# Altium footprint library Tactile_Switches_Buttons.PCBLIB: 2 footprints
Each footprint in its own frame and in the unit in brackets; x right, y up, seen from the top. Pads: shape width x height; smd on the part's side, far side on the other; paste and mask are expansions set on the pad; w line width, h text height; cw(c..) or ccw(c..) is an arc to the next point about the centre after c.
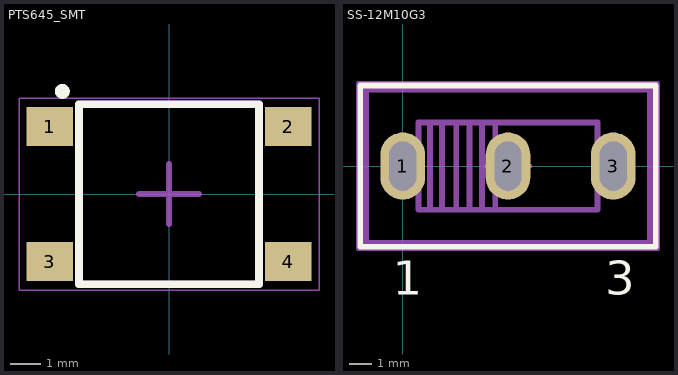
[diagram p0: the footprints below, top view; thin cyan lines are the x and y axes]

## PTS645_SMT [mm]
pads (4):
  rect 1.55x1.3 smd: 1(-3.975,2.25) 2(3.975,2.25) 3(-3.975,-2.25) 4(3.975,-2.25)
Top Overlay:
  circle w0.254: c-3.556,3.429 r0.121
  lines w0.254: -3,-3 3,-3 3,3 -3,3 -3,-3
Top Assembly:
  lines w0.254: -3,-3 3,-3 3,3 -3,3 -3,-3
Top Courtyard:
  lines w0.05: -5,-3.2 -5,3.2 5,3.2 5,-3.2 -5,-3.2
Top Designator:
  text ".Designator" at -0.4,-0.4 h0.76
Top Component Center:
  lines w0.2: -1,0 1,0 ; 0,-1 0,1
3D body "PTS645SM43SMTR92LFS.stp": height 4.3, standoff 0, extent -4.5,-3 4.5,3

## SS-12M10G3 [mm]
pads (3):
  oval 2x3 hole 1.2 slot 2.2 at 90 deg: 1(0,0) 2(4.7,0) 3(9.4,0)
Top Overlay:
  lines w0.254: -1.9,-3.6 11.3,-3.6 11.3,3.6 -1.9,3.6 -1.9,-3.6
  text "3" at 9.054,-5.746 h1.52
  text "1" at -0.446,-5.746 h1.52
Top Assembly:
  region: -1.904,3.683 -1.904,-3.683 -1.523,-3.683 -1.523,3.683
  region: 11.304,-3.683 11.304,3.683 10.923,3.683 10.923,-3.683
  region: -1.523,3.683 10.923,3.683 10.923,3.302 -1.523,3.302
  region: -1.523,-3.683 10.923,-3.683 10.923,-3.302 -1.523,-3.302
  lines w0.254: 0.7,-1.013 0.7,-1.95 8.7,-1.95 8.7,-1.013 ; 0.7,1.013 0.7,1.95 8.7,1.95 8.7,1.013 ; 1.215,-1.95 1.215,1.95 ; 1.748,-1.95 1.748,1.95 ; 2.383,-1.95 2.383,1.95 ; 2.98,-1.95 2.98,1.95 ; 3.539,-1.95 3.539,1.95 ; 4.136,-1.95 4.136,-1.14 ; 4.136,1.14 4.136,1.95
Top Courtyard:
  lines w0.2: -2,-3.7 11.4,-3.7 11.4,3.7 -2,3.7 -2,-3.7
Top Designator:
  text ".Designator" at 2.9,4.1 h0.76
Top Component Center:
  lines w0.2: 3.7,0 5.7,0 ; 4.7,-1 4.7,1